# EAGLE library part ADP1612-DEV (library diode)
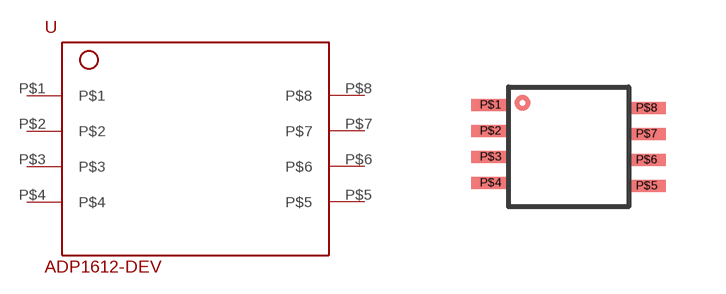
[diagram p0: symbol with the pads of TQFP-ADP1612; footprint TQFP-ADP1612]

Designator prefix -

## ADP1612-DEV  [TQFP-ADP1612]
P$1  P$1
P$2  P$2
P$3  P$3
P$4  P$4
P$5  P$5
P$6  P$6
P$7  P$7
P$8  P$8

## Footprint TQFP-ADP1612 (pad centres in mm)
smd 0.95 x 0.3: P$1 -0.45,2.55; P$2 -0.45,1.9; P$3 -0.45,1.25; P$4 -0.45,0.6; P$5 3.45,0.525; P$6 3.45,1.175; P$7 3.45,1.825; P$8 3.45,2.475